# Altium schematic symbol library SN74LVC1G240DBVT.Schlib: 1 symbol
Pins are listed as number, name and electrical type; pins without a type are passive.

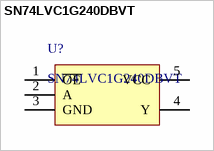
[diagram p0: symbol SN74LVC1G240DBVT]

## SN74LVC1G240DBVT
designator U?
Buffer, Inverting 1 Element 1 Bit per Element 3-State Output SOT-23-5
pins: 1 ~{OE}, 2 A, 3 GND, 4 Y, 5 VCC